# Altium schematic symbol library RC2512FR-074K3L.SchLib: 1 symbol
Pins are listed as number, name and electrical type; pins without a type are passive.

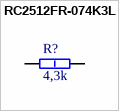
[diagram p0: symbol RC2512FR-074K3L]

## RC2512FR-074K3L
designator R?, comment 4,3k
4,3 kOhms Â±1% 1W, Chip Resistor 2512 (6332 Metric) Thin Film.; MF: Yageo; MP: RT0805FRE071KL; Package: 2012 Rohm Semiconductor; Check_prices: https://www.snapeda.com/parts/RT0805FRE071KL/Yageo/view-part/615646/?ref=eda; Digi-Key_Part_Number: YAG1240CT-ND; Value: *; Purchase-URL: https://pricing.snapeda.com/search/part/RT0805FRE071KL/?ref=eda; SnapEDA_Link: https://www.snapeda.com/parts/RT0805FRE071KL/Yageo/view-part/615646/?ref=snap
footprint RC2512FR-074K3L
pins: 1, 2